# EAGLE library part SD-SCHA (library sam-scha)
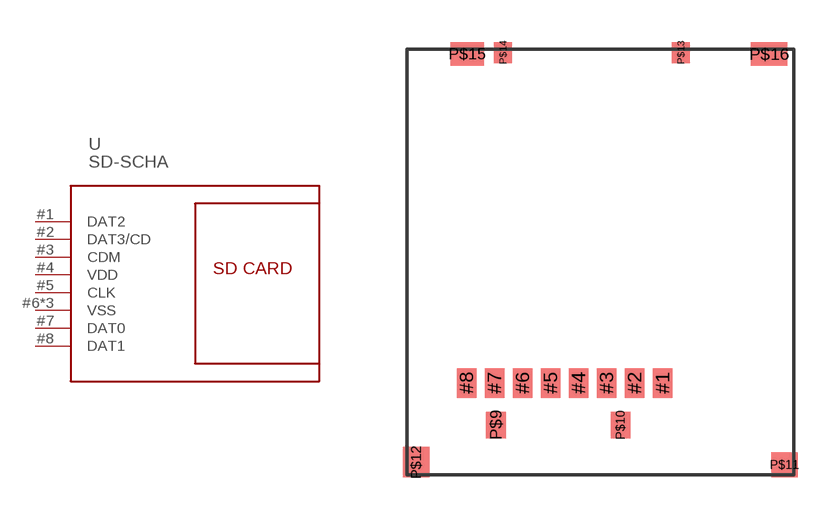
[diagram p0: symbol with the pads of SD-SCHA; footprint SD-SCHA]

Designator prefix -

## SD-SCHA  [SD-SCHA]
#1  DAT2
#2  DAT3/CD
#3  CDM
#4  VDD
#5  CLK
#6  VSS  oc
#7  DAT0
#8  DAT1
P$9  VSS  oc
P$10  VSS  oc

## Footprint SD-SCHA (pad centres in mm)
smd 0.7 x 1.05: #1 2.225,3.275; #2 1.225,3.275; #3 0.225,3.275; #4 -0.775,3.275; #5 -1.775,3.275; #6 -2.775,3.275; #7 -3.775,3.275; #8 -4.775,3.275
smd 0.7 x 0.95: P$9 -3.725,1.775; P$10 0.725,1.775
smd 0.95 x 0.9: P$11 6.575,0.35
smd 0.95 x 1.1: P$12 -6.575,0.45
smd 0.65 x 0.75: P$13 2.875,15.075; P$14 -3.475,15.075
smd 1.2 x 0.85: P$15 -4.75,15.025
smd 1.3 x 0.85: P$16 6.025,15.025